# Altium schematic symbol library UJT-N.Schlib: 1 symbol
Pins are listed as number, name and electrical type; pins without a type are passive.

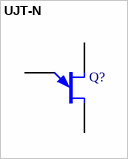
[diagram p0: symbol UJT-N]

## UJT-N
designator Q?
Unijunction Transistor with N-Type Base
pins: 1 E, 2 B1, 3 B2